# EAGLE library part Q_MIC5021 (library MRDT-2014-All)
MIC5021 High Side Driver with Electronic Breaker
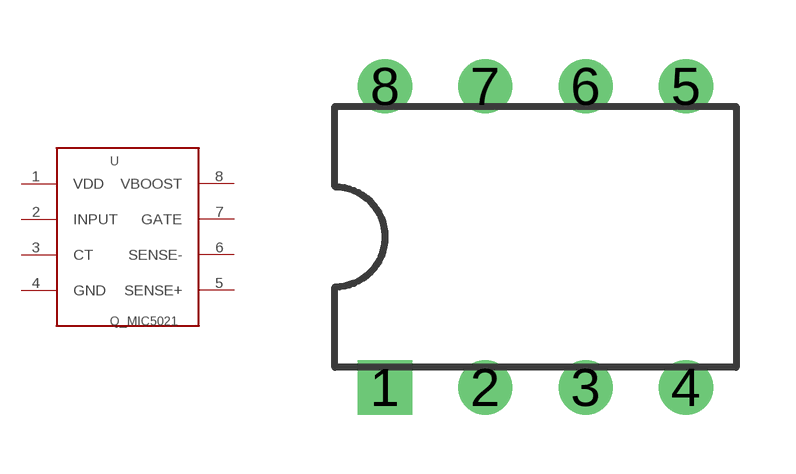
[diagram p7: symbol with the pads of DIP8; footprint DIP8]

Designator prefix -

## Q_MIC5021  [DIP8]
1  VDD
2  INPUT
3  CT
4  GND
5  SENSE+
6  SENSE-
7  GATE
8  VBOOST

## Footprint DIP8 (pad centres in mm)
drill 0.864 square: 1 -3.81,-3.81
drill 0.864: 2 -1.27,-3.81; 3 1.27,-3.81; 4 3.81,-3.81; 5 3.81,3.81; 6 1.27,3.81; 7 -1.27,3.81; 8 -3.81,3.81